# EAGLE library part ADA4898-1 (library opamps)
ADA4898-1: Low noise opamp (Analog Devices) ±15V, ±150mA, 400nA bias 110µV offset, 65MHz UGF, 0.9nV/rt(Hz) noise The exposed pad should be connected to the negative supply!
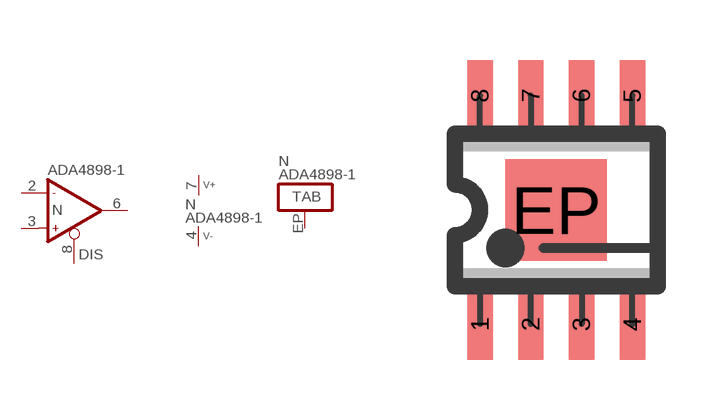
[diagram p269: symbol with the pads of SO08-EP2; footprint SO08-EP2]

Designator prefix N; gates A=OP_DIS P=V+- T=TAB

## ADA4898-1S  [SO08-EP2]
2  A:IN-  in
3  A:IN+  in
4  P:V-  pwr
6  A:OUT  out
7  P:V+  pwr
8  A:DIS  in
EP  T:TAB

## ADA4898-1  [SO08-EP2]
Pads as for SO08-EP2

## Footprint SO08-EP2 (pad centres in mm)
SO-8, SMD SOIC IC package, 8 pins, exposed pad
smd 0.635 x 1.778: 1 -1.905,-2.857; 2 -0.635,-2.857; 3 0.635,-2.857; 4 1.905,-2.857; 5 1.905,2.857; 6 0.635,2.857; 7 -0.635,2.857; 8 -1.905,2.857
smd 2.54 x 2.54: EP 0,0